# Altium footprint library micro_usb.PcbLib: 1 footprints
Each footprint in its own frame and in the unit in brackets; x right, y up, seen from the top. Pads: shape width x height; smd on the part's side, far side on the other; paste and mask are expansions set on the pad; w line width, h text height; cw(c..) or ccw(c..) is an arc to the next point about the centre after c.
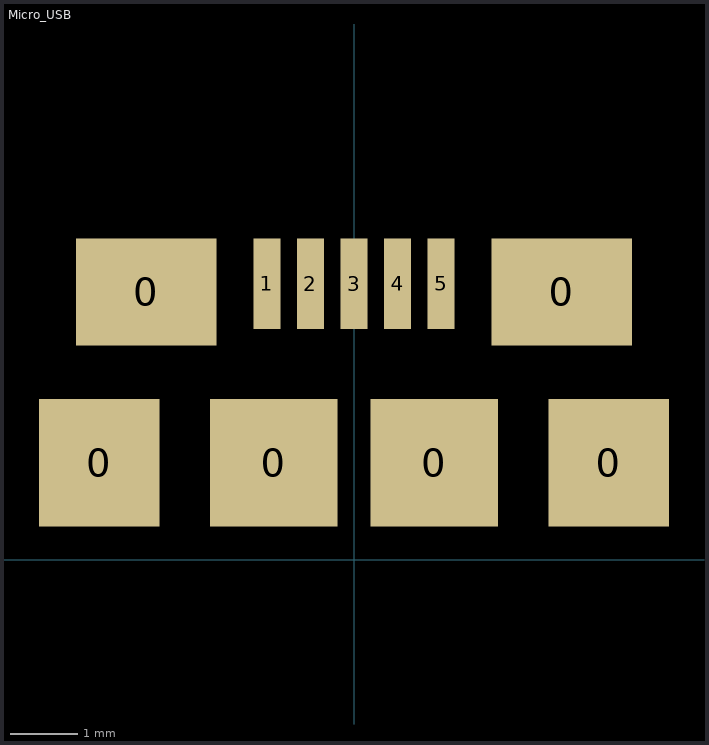
[diagram p0: the footprint, top view; thin cyan lines are the x and y axes]

## Micro_USB [mm]
pads (11):
  rect 1.8x1.9 smd: 0(-3.8,1.45) 0(3.8,1.45)
  rect 2.1x1.6 smd: 0(-3.1,4) 0(3.1,4)
  rect 1.9x1.9 smd: 0(-1.2,1.45) 0(1.2,1.45)
  rect 0.4x1.35 smd: 1(-1.3,4.125) 2(-0.65,4.125) 3(0,4.125) 4(0.65,4.125) 5(1.3,4.125)